# EAGLE library part STM32F437V (library STM32)
STM32F437xx ARM® Cortex®-M4, STM32 F4 Microcontroller IC, 32-Bit, 180MHz, up to 2MB FLASH Datasheet <http://www.st.com/content/ccc/resource/technical/document/datasheet/fd/8c/0a/19/13/8f/41/99/DM00077036.pdf/files/DM00077036.pdf/jcr:content/translations/en.DM00077036.pdf>
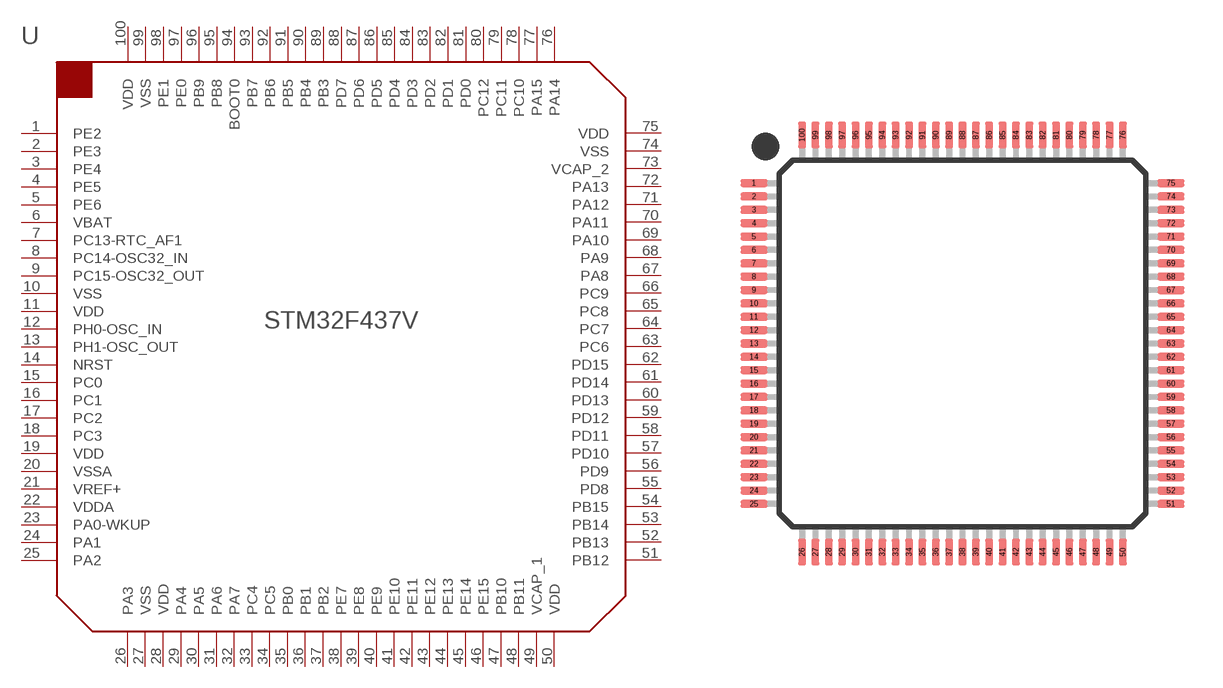
[diagram p8: symbol with the pads of LQFP100; footprint LQFP100]

Designator prefix U

## STM32F437VGT6 (DATASHEET: https://goo.gl/uCuxFq; DESC: IC MCU 32BIT 1MB FLASH 100LQFP; MANF: ST Microelectronics; MEM: 1MB; MFPN: STM32F437VGT6; SPEED: 180MHz; STATUS: Active; TEMP: -40°C ~ 85°C (TA)), STM32F437VIT6 (DATASHEET: https://goo.gl/uCuxFq; DESC: IC MCU 32BIT 2MB FLASH 100LQF; MANF: ST Microelectronics; MEM: 2MB; MFPN: STM32F437VIT6; SPEED: 180MHz; STATUS: Active; TEMP: -40°C ~ 85°C (TA))  [LQFP100]
1  PE2
2  PE3
3  PE4
4  PE5
5  PE6
6  VBAT  pwr
7  PC13-RTC_AF1
8  PC14-OSC32_IN
9  PC15-OSC32_OUT
10  VSS  pwr
11  VDD  pwr
12  PH0-OSC_IN
13  PH1-OSC_OUT
14  NRST
15  PC0
16  PC1
17  PC2
18  PC3
19  VDD  pwr
20  VSSA  pwr
21  VREF+  pwr
22  VDDA  pwr
23  PA0-WKUP
24  PA1
25  PA2
26  PA3
27  VSS  pwr
28  VDD  pwr
29  PA4
30  PA5
31  PA6
32  PA7
33  PC4
34  PC5
35  PB0
36  PB1
37  PB2
38  PE7
39  PE8
40  PE9
41  PE10
42  PE11
43  PE12
44  PE13
45  PE14
46  PE15
47  PB10
48  PB11
49  VCAP_1  pwr
50  VDD  pwr
51  PB12
52  PB13
53  PB14
54  PB15
55  PD8
56  PD9
57  PD10
58  PD11
59  PD12
60  PD13
61  PD14
62  PD15
63  PC6
64  PC7
65  PC8
66  PC9
67  PA8
68  PA9
69  PA10
70  PA11
71  PA12
72  PA13
73  VCAP_2  pwr
74  VSS  pwr
75  VDD  pwr
76  PA14
77  PA15
78  PC10
79  PC11
80  PC12
81  PD0
82  PD1
83  PD2
84  PD3
85  PD4
86  PD5
87  PD6
88  PD7
89  PB3
90  PB4
91  PB5
92  PB6
93  PB7
94  BOOT0  in
95  PB8
96  PB9
97  PE0
98  PE1
99  VSS  pwr
100  VDD  pwr

## Footprint LQFP100 (pad centres in mm)
LQFP-100
smd 1 x 0.3: 1 -7.8,6; 2 -7.8,5.5; 3 -7.8,5; 4 -7.8,4.5; 5 -7.8,4; 6 -7.8,3.5; 7 -7.8,3; 8 -7.8,2.5; 9 -7.8,2; 10 -7.8,1.5; 11 -7.8,1; 12 -7.8,0.5; 13 -7.8,0; 14 -7.8,-0.5; 15 -7.8,-1; 16 -7.8,-1.5; 17 -7.8,-2; 18 -7.8,-2.5; 19 -7.8,-3; 20 -7.8,-3.5; 21 -7.8,-4; 22 -7.8,-4.5; 23 -7.8,-5; 24 -7.8,-5.5; 25 -7.8,-6; 51 7.8,-6; 52 7.8,-5.5; 53 7.8,-5; 54 7.8,-4.5; 55 7.8,-4; 56 7.8,-3.5; 57 7.8,-3; 58 7.8,-2.5; 59 7.8,-2; 60 7.8,-1.5; 61 7.8,-1; 62 7.8,-0.5; 63 7.8,0; 64 7.8,0.5; 65 7.8,1; 66 7.8,1.5; 67 7.8,2; 68 7.8,2.5; 69 7.8,3; 70 7.8,3.5; 71 7.8,4; 72 7.8,4.5; 73 7.8,5; 74 7.8,5.5; 75 7.8,6
smd 0.3 x 1: 26 -6,-7.8; 27 -5.5,-7.8; 28 -5,-7.8; 29 -4.5,-7.8; 30 -4,-7.8; 31 -3.5,-7.8; 32 -3,-7.8; 33 -2.5,-7.8; 34 -2,-7.8; 35 -1.5,-7.8; 36 -1,-7.8; 37 -0.5,-7.8; 38 0,-7.8; 39 0.5,-7.8; 40 1,-7.8; 41 1.5,-7.8; 42 2,-7.8; 43 2.5,-7.8; 44 3,-7.8; 45 3.5,-7.8; 46 4,-7.8; 47 4.5,-7.8; 48 5,-7.8; 49 5.5,-7.8; 50 6,-7.8; 76 6,7.8; 77 5.5,7.8; 78 5,7.8; 79 4.5,7.8; 80 4,7.8; 81 3.5,7.8; 82 3,7.8; 83 2.5,7.8; 84 2,7.8; 85 1.5,7.8; 86 1,7.8; 87 0.5,7.8; 88 0,7.8; 89 -0.5,7.8; 90 -1,7.8; 91 -1.5,7.8; 92 -2,7.8; 93 -2.5,7.8; 94 -3,7.8; 95 -3.5,7.8; 96 -4,7.8; 97 -4.5,7.8; 98 -5,7.8; 99 -5.5,7.8; 100 -6,7.8